# EAGLE library part TLC59401 (library display-r2)
16-CHANNEL LED DRIVER WITH DOT CORRECTION AND GRAYSCALE PWM CONTROL http://www.ti.com/lit/ds/symlink/tlc59401.pdf
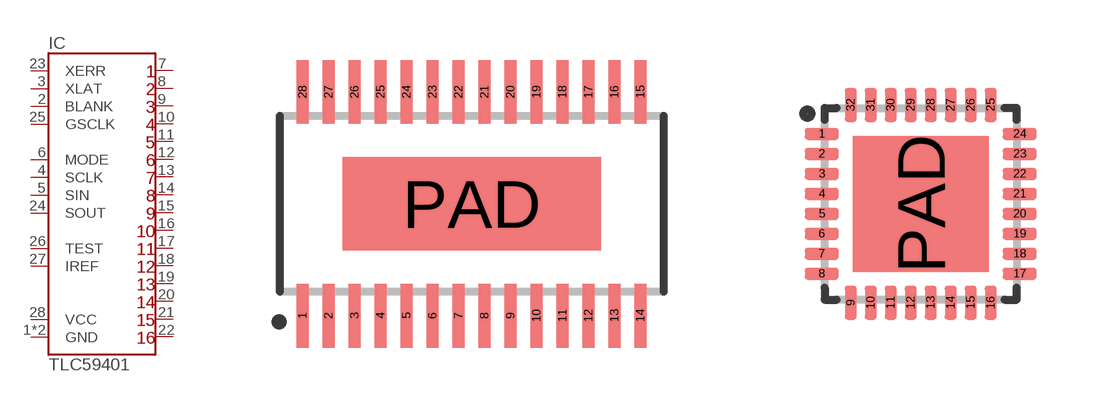
[diagram p7: symbol with the pads of TSSOP28_PAD; footprints TSSOP28_PAD, QFN-32-5X5]

Designator prefix IC

## TLC59401PWP  [TSSOP28_PAD]
1  GND  pwr
2  BLANK  in
3  XLAT  in
4  SCLK  in
5  SIN  in
6  MODE  in
7  OUT1  out
8  OUT2  out
9  OUT3  out
10  OUT4  out
11  OUT5  out
12  OUT6  out
13  OUT7  out
14  OUT8  out
15  OUT9  out
16  OUT10  out
17  OUT11  out
18  OUT12  out
19  OUT13  out
20  OUT14  out
21  OUT15  out
22  OUT16  out
23  XERR  oc
24  SOUT  out
25  GSCLK  in
26  TEST  in
27  IREF  in
28  VCC  pwr
PAD  GND  pwr

## TLC59401RHB  [QFN-32-5X5]
1  SCLK  in
2  SIN  in
3  MODE  in
4  OUT1  out
5  OUT2  out
6  OUT3  out
7  OUT4  out
8  OUT5  out
9  OUT6  out
10  OUT7  out
11  OUT8  out
14  OUT9  out
15  OUT10  out
16  OUT11  out
17  OUT12  out
18  OUT13  out
19  OUT14  out
20  OUT15  out
21  OUT16  out
22  XERR  oc
23  SOUT  out
24  GSCLK  in
25  TEST  in
26  IREF  in
27  VCC  pwr
30  GND  pwr
31  BLANK  in
32  XLAT  in
PAD  GND  pwr

## Footprint TSSOP28_PAD (pad centres in mm)
smd 0.3 x 1.6: 1 -4.225,-2.8; 2 -3.575,-2.8; 3 -2.925,-2.8; 4 -2.275,-2.8; 5 -1.625,-2.8; 6 -0.975,-2.8; 7 -0.325,-2.8; 8 0.325,-2.8; 9 0.975,-2.8; 10 1.625,-2.8; 11 2.275,-2.8; 12 2.925,-2.8; 13 3.575,-2.8; 14 4.225,-2.8; 15 4.225,2.8; 16 3.575,2.8; 17 2.925,2.8; 18 2.275,2.8; 19 1.625,2.8; 20 0.975,2.8; 21 0.325,2.8; 22 -0.325,2.8; 23 -0.975,2.8; 24 -1.625,2.8; 25 -2.275,2.8; 26 -2.925,2.8; 27 -3.575,2.8; 28 -4.225,2.8
smd 6.46 x 2.35: PAD 0,0

## Footprint QFN-32-5X5 (pad centres in mm)
Based on RICHTEK Footprints-080311.pdf
smd 0.85 x 0.3: 1 -2.475,1.75; 2 -2.475,1.25; 3 -2.475,0.75; 4 -2.475,0.25; 5 -2.475,-0.25; 6 -2.475,-0.75; 7 -2.475,-1.25; 8 -2.475,-1.75; 17 2.475,-1.75; 18 2.475,-1.25; 19 2.475,-0.75; 20 2.475,-0.25; 21 2.475,0.25; 22 2.475,0.75; 23 2.475,1.25; 24 2.475,1.75
smd 0.3 x 0.85: 9 -1.75,-2.475; 10 -1.25,-2.475; 11 -0.75,-2.475; 12 -0.25,-2.475; 13 0.25,-2.475; 14 0.75,-2.475; 15 1.25,-2.475; 16 1.75,-2.475; 25 1.75,2.475; 26 1.25,2.475; 27 0.75,2.475; 28 0.25,2.475; 29 -0.25,2.475; 30 -0.75,2.475; 31 -1.25,2.475; 32 -1.75,2.475
smd 3.4 x 3.4: PAD 0,0